# EAGLE library part 74*243 (library 74ttl-din-rp)
Quadruple BUS TRANSCEIVER
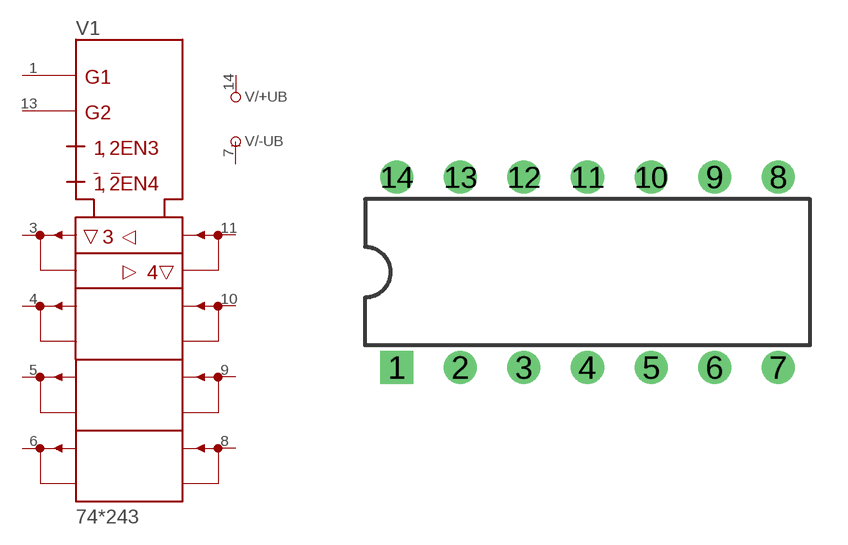
[diagram p70: symbol with the pads of DIL14; footprint DIL14]

Designator prefix V; gates /+UB=+UB /-UB=-UB 1=243

## 74243N  [DIL14]
1  1:G1  in
3  1:A1
4  1:A2
5  1:A3
6  1:A4
7  /-UB:-UB  pwr
8  1:B4
9  1:B3
10  1:B2
11  1:B1
13  1:G2  in
14  /+UB:+UB  pwr

## Footprint DIL14 (pad centres in mm)
Dual In Line Package
drill 0.813 square: 1 -7.62,-3.81
drill 0.813: 2 -5.08,-3.81; 3 -2.54,-3.81; 4 0,-3.81; 5 2.54,-3.81; 6 5.08,-3.81; 7 7.62,-3.81; 8 7.62,3.81; 9 5.08,3.81; 10 2.54,3.81; 11 0,3.81; 12 -2.54,3.81; 13 -5.08,3.81; 14 -7.62,3.81